# Altium schematic symbol library Voltage Regulator.SchLib: 52 symbols (part 2 of 2)
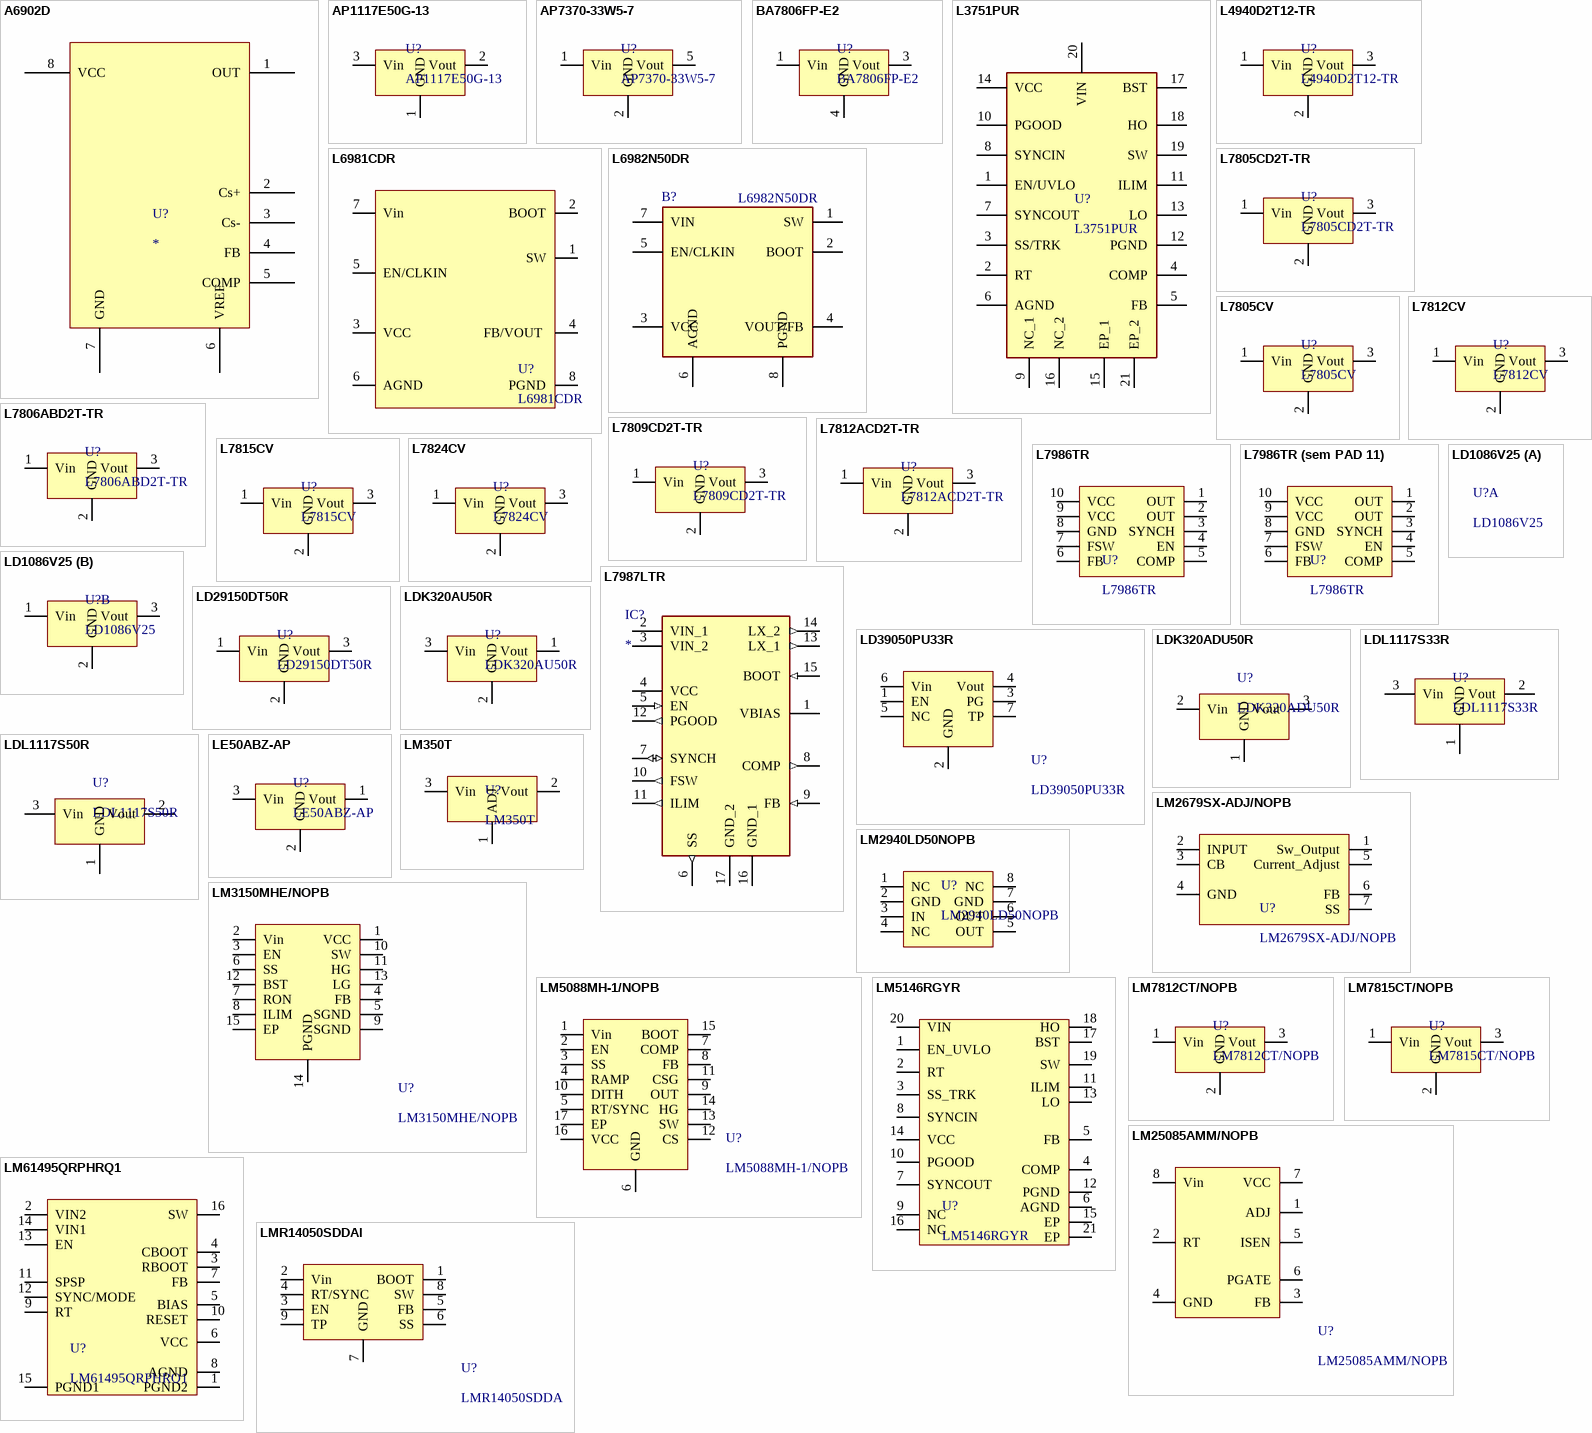
[diagram p2: symbols A6902D to LMR14050SDDAl]

## LM61495QRPHRQ1
designator U?
IC SWITCHING REGULATOR 10A 36V TO 12V; Manufacturer: Texas Instruments; Max Power Dissipation: Internally Limited; Output Type: Switch; Voltage - Input (Max): 3 - 36V; Current - Quiescent (Iq): 10uA; Library Control - Checked Schematic: Yes; Library Control - Person that Checked Schematic: Tico liro; Voltage - Output (Max): 19.58V; Supplier 1: Mouser; Part Number: LM61495QRPHRQ1; Library Ref: Voltage Regulator; Category: Switch Voltage Regulator; Price: 1=6,43, 10=5,81, 100=4,60 (USD); Package/ Case: VQFN-HR-16; Operating Temperature: -40~150ºC; Voltage - Output (Min/Fixed): 12V; Supplier Part Number 1: 595-LM61495QRPHRQ1; Library Control - Person that did the Last Update Schematic: Tico Liro; Current - Output: 10A; Power Dissipation: Internally Limited; ComponentLink1Description: Mouser Link; ComponentLink1URL: https://br.mouser.com/ProductDetail/Texas-Instruments/LM61495QRPHRQ1?qs=%2Fha2pyFadujnBz20fuua%252B7dznIPjiiJKPXGl95EYLkkqJ%252BooFCTelw%3D%3D; ComponentLink2Description: Datasheet; ComponentLink2URL: https://www.ti.com/lit/ds/symlink/lm61495-q1.pdf?ts=1632746094469&ref_url=https%253A%252F%252Fbr.mouser.com%252F
footprint VQFN-HR-16
pins: 1 PGND2, 2 VIN2, 3 RBOOT, 4 CBOOT, 5 BIAS, 6 VCC, 7 FB, 8 AGND, 9 RT, 10 RESET, 11 SPSP, 12 SYNC/MODE, 13 EN, 14 VIN1, 15 PGND1, 16 SW

## LMR14050SDDAl
designator U?, comment LMR14050SDDA
IC REG SWITCHING 5A 0.8V TO 28V; Manufacturer: Texas Instruments; Output Type: Regulated; Number of Regulators: 1; Voltage - Input (Max): 40V; Library Control - Checked Footprint: Yes; Library Control - Person that Checked Footprint: Nícolas; Library Control - Person that did the Last Update Footprint: Raquel; Voltage - Input (Min): 4V; Frequency - Switching: 2.2MHz; Current - Operating Supply: 40uA; Supplier 1: MOUSER; Part Number: LMR14050SDDA; Library Ref: Voltage Regulator; Category: Switching Voltage Regulator; Price: 1=3,56, 10=3,20, 100=2,61 (USD); Package/ Case: SO-PowerPad-8; Operating Temperature: -40~125ºC; Max Power Dissipation: -; Voltage - Output (Min/Fixed): 0.8V; Supplier Part Number 1: 595-LMR14050SDDA; Voltage - Dropout (Max): -; Library Control - Checked Schematic: Yes; Library Control - Last Update: 13/06/21; Library Control - Person that Checked Schematic: Nícolas; Library Control - Person that did the Last Update Schematic: Raquel; Voltage - Output (Max): 28V; Current - Output: 5A; ComponentLink1Description: Datasheet; ComponentLink1URL: https://www.ti.com/lit/ds/symlink/lmr14050.pdf?HQS=dis-mous-null-mousermode-dsf-pf-null-wwe&ts=1622835396169&ref_url=https%253A%252F%252Fwww.google.com%252F; ComponentLink2Description: Mouser Link; ComponentLink2URL: https://br.mouser.com/ProductDetail/Texas-Instruments/LMR14050SDDA?qs=G5PZsBocSXvS%252BW5YoCtcqQ%3D%3D
footprint SO-PowerPad-8 (SOIC, 8-Leads, Body 4,90x3,90mm, Pitch 1,27mm, Thermal Pad 3,10x2,40mm, IPC Medium Density)
pins: 1 BOOT, 2 Vin, 3 EN, 4 RT/SYNC, 5 FB, 6 SS, 7 GND, 8 SW, 9 TP

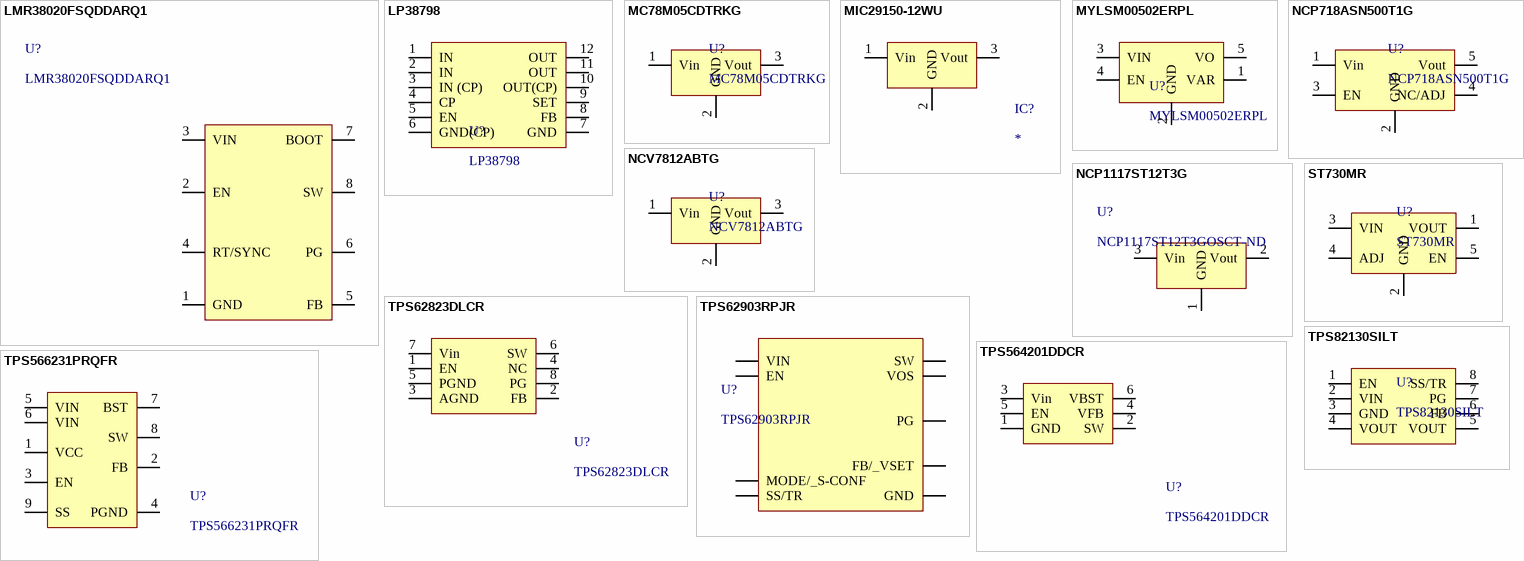
[diagram p1: symbols LMR38020FSQDDARQ1 to TPS566231PRQFR]

## LMR38020FSQDDARQ1
designator U?
IC REG SWITCHING 2A 4.2v TO 80V; Manufacturer: Texas Instruments; Description: Automotive SIMPLE SWITCHER® power converter 4.2-V to 80-V, 2-A, synchronous buck converter 8-SO PowerPAD -40 to 150; Supplier: Mouser; Supplier Part Number: 595-MR38020FSQDDARQ1; Part Number: LMR38020FSQDDARQ1; RoHS: No; Category: Voltage Regulators - Switching; Stock: 3256; Pricing: 1=3,6, 10=2,46, 50=2,46, 100=2,18, 1000=1,9, 10000=1,87 (USD); Manufacturer Part Number: LMR38020FSQDDARQ1
footprint SO-8 (Regulator)
pins: 1 GND, 2 EN, 3 VIN, 4 RT/SYNC, 5 FB, 6 PG, 7 BOOT, 8 SW

## LP38798
designator U?
IC SWITCHING REGULATOR 800mA 3V TO 20V; Manufacturer: Texas Instruments; Max Power Dissipation: Internally Limited; Output Type: Switch; Voltage - Output (Min/Fixed): 1.2V; Current - Quiescent (Iq): 2.2mA; Voltage - Dropout (Max): 420mV; Library Control - Checked Schematic: Yes; Library Control - Person that Checked Schematic: Nícolas; Voltage - Output (Max): 19.58V; Supplier 1: Mouser; Part Number: LP38798; Library Ref: Voltage Regulator; Category: Switch Voltage Regulator; Price: 1=3,70, 10=3,32, 100=3,14 (USD); Package/ Case: WSON-12; Operating Temperature: -65~150ºC; Voltage - Input (Max): 20V; Supplier Part Number 1: 595-LP38798SDEADJNPB; Library Control - Person that did the Last Update Schematic: Nícolas; Current - Output: 800mA; Power Dissipation: Internally Limited; ComponentLink1Description: Mouser Link; ComponentLink1URL: https://br.mouser.com/ProductDetail/Texas-Instruments/LP38798SDE-ADJ-NOPB?qs=n38Wlrh4b4aayTiTCgMhSA%3D%3D; ComponentLink2Description: Datasheet; ComponentLink2URL: https://www.ti.com/lit/ds/symlink/lp38798.pdf?HQS=dis-mous-null-mousermode-dsf-pf-null-wwe&ts=1622835313490&ref_url=https%253A%252F%252Fwww.google.com%252F
footprint WSON-12 (SON, 12-Leads, Body 4,00x4,00mm, Pitch 0,50mm, Thermal Pad 3,01x2,29mm, IPC Medium Density)
pins: 1 IN, 2 IN, 3 IN (CP), 4 CP, 5 EN, 6 GND(CP), 7 GND, 8 FB, 9 SET, 10 OUT(CP), 11 OUT, 12 OUT

## MC78M05CDTRKG
designator U?
IC REG LINEAR 5V 500mA TO-252-3; Manufacturer: ON Semiconductor; Max Power Dissipation: Internally Limited; Output Type: Fixed; Number of Regulators: 1; Voltage - Input (Max): 35V; Current - Quiescent (Iq): 0.8mA; Voltage - Dropout (Max): 2.0V; Library Control - Checked Schematic: Yes; Library Control - Person that Checked Schematic: Nícolas; Library Control - Person that did the Last Update Footprint: Raquel; Voltage - Output (Max): 5.2V; Supplier 1: MOUSER; Part Number: MC78M05CDTRKG; Library Ref: Voltage Regulator; Category: Linear Voltage Regulator; Price: 1=0,48,10=0,406, 100=0,281 (USD); Package/ Case: TO-252-3; Operating Temperature: 0~125ºC; Voltage - Output (Min/Fixed): 5V; Supplier Part Number 1: 863-MC78M05CDTRKG; Library Control - Last Update: 25/06/21; Library Control - Person that did the Last Update Schematic: Raquel; Current - Output: 500mA; ComponentLink1Description: Datasheet; ComponentLink1URL: https://br.mouser.com/datasheet/2/308/1/MC78M00_D-2316032.pdf; ComponentLink2Description: Mouser Link; ComponentLink2URL: https://br.mouser.com/ProductDetail/ON-Semiconductor/MC78M05CDTRKG?qs=%2Fha2pyFaduirlRo6%252B6i1uI%2F8zrb8sRMZfecK7BDoyj3iVBrTtFeRIg%3D%3D
footprint TO-252-3-Reg (D-PAK, 3-Pads, Body 6,21x6,73mm (max), IPC Medium Density)
pins: 1 Vin (power), 2 GND (power), 3 Vout (power)

## MIC29150-12WU
designator IC?
Integrated Circuit; Manufacturer_Name: Microchip; Manufacturer_Part_Number: MIC29150-12WU; Datasheet Link: http://www.microchip.com/mymicrochip/filehandler.aspx?ddocname=en580805; Height: 4.902mm; Arrow Part Number: MIC29150-12WU; Arrow Price/Stock: https://www.arrow.com/en/products/mic29150-12wu/microchip-technology?region=nac
footprint MIC2915012WU
pins: 1 Vin (power), 2 GND (power), 3 Vout (power)

## MYLSM00502ERPL
designator U?
Non-Isolated DC/DC Converters 1-5.25V 13W DC/DC; Manufacturer: Murata Electronics; Voltage - Input (Max): 17 V; Library Control - Checked Footprint: Yes; Library Control - Person that Checked Footprint: Lazanha; Supplier 1: Mouser; Part Number: MYLSM00502ERPL; Library Ref: DC/DC Converters; Category: Non-Isolated DC/DC Converters; Price: 1=3.96, 10=3.85, 100=3.51; Package/ Case: -; Operating Temperature: -40 to +85; Max Power Dissipation: -; Output Type: -; Number of Regulators: -; Voltage - Output (Min/Fixed): -; Current - Quiescent (Iq): -; Supplier Part Number 1: 580-MYLSM00502ERPL; Voltage - Dropout (Max): -; Library Control - Checked Schematic: Yes; Library Control - Last Update: 17/08/2022; Library Control - Person that Checked Schematic: Lazanha; Current - Output: -; Power Dissipation: -; Voltage - Output (Max): -; ComponentLink1Description: Mouser; ComponentLink1URL: https://br.mouser.com/ProductDetail/Murata-Electronics/MYLSM00502ERPL?qs=j%252B1pi9TdxUa0tKLzjWlabw%3D%3D; ComponentLink2Description: Datasheet; ComponentLink2URL: https://br.mouser.com/datasheet/2/281/MYLSM00502ERPL-1219185.pdf
footprint MYLSM00502ERPL
pins: 1 VAR, 2 GND, 3 VIN, 4 EN, 5 VO

## NCP718ASN500T1G
designator U?
IC REG LINEAR 5V 300mA TSOT-23-5; Manufacturer: ON Semiconductor; Max Power Dissipation: Internally limited; Output Type: Fixed; Number of Regulators: 1; Voltage - Input (Max): 24V; Current - Quiescent (Iq): 4 uA; Voltage - Dropout (Max): 380 mV (300 mA); Library Control - Checked Footprint: Yes; Library Control - Person that Checked Footprint: Nícolas; Voltage - Output (Max): 5.3V; Supplier 1: MOUSER; Part Number: NCP718ASN500T1G; Library Ref: Voltage Regulator; Category: Linear Voltage Regulator; Price: 1= 0.53000, 10= 0.45600, 100= 0.31600 (USD); Package/ Case: TSOT-23-5; Operating Temperature: -40°C~125°C; Voltage - Output (Min/Fixed): 5V; Supplier Part Number 1: 863-NCP718ASN500T1G; Library Control - Checked Schematic: Yes; Library Control - Last Update: 23/06 10:35; Library Control - Person that Checked Schematic: Nícolas; Library Control - Person that did the Last Update Schematic: Nícolas; Current - Output: 300 mA; Power Dissipation: Internally limited; ComponentLink1Description: Datasheet; ComponentLink1URL: https://br.mouser.com/datasheet/2/308/1/NCP718_D-2317435.pdf; ComponentLink2Description: Mouser Link; ComponentLink2URL: https://br.mouser.com/ProductDetail/ON-Semiconductor/NCP718ASN500T1G?qs=%2Fha2pyFadujVPk3%252BPJxrrjZu0iWv1aU0l12V8nReSjBrkWpAUSUQYw4Kc5lpI2ag
footprint TSOT-23-5
pins: 1 Vin, 2 GND, 3 EN, 4 NC/ADJ, 5 Vout

## NCP1117ST12T3G
designator U?, comment NCP1117ST12T3GOSCT-ND
IC REG LINEAR 12V 1.0A 13.5V TO 20V SOT-223-3; Manufacturer: ON Semiconductor; Package Body Material: Plastic; Adjustability: FIXED; Dropout Voltage1-Max: 1.2V; Dropout Voltage1-Nom: 1.07V; Channels: 1; Output Current1-Max: 1A; Output Voltage1-Max: 12.24V; Output Voltage1-Min: 11.76V; Regulator Type: FIXED POSITIVE SINGLE OUTPUT LDO REGULATOR; Time @ Peak Reflow Temperature-Max (s): 40s; Voltage Tolerance-Max: 2%; Qualification Status: Not Qualified; Supplier: Digikey; Part Number: NCP1117ST12T3GOSCT-ND; Manufacturer Part Number: NCP1117ST12T3G; RoHS: Yes; Category: Voltage Regulators - Linear; Stock: 11439; Pricing: 1=1,17, 10=0,71, 25=0,5908, 100=0,4554, 250=0,38888, 500=0,34792, 1000=0,31362 (USD); Case/Package: SOP; Pins: 4; Package Shape: Rectangular; Terminal Finish: Tin; JESD-609 Code: e3; Input Voltage Absolute-Max: 20V; Max Supply Voltage: 20V; Min Input Voltage: 13.5V; JESD-30 Code: R-PDSO-G4; Moisture Sensitivity Level: 1; Number of Outputs: 1; Operating Temperature, TJ-Max: 150°C; Operating Temperature, TJ-Min: -55°C; Output Voltage1-Nom: 12V; Packaging: Tape and Reel; Peak Reflow Temperature (Cel): 260°C; Surface Mount: Yes; Technology: BIPOLAR; Terminal Form: Gull Wing; Terminal Position: DUAL; Length: 6.5mm; Width: 3.5mm; Height - Seated (Max): 1.8mm; Terminal Pitch: 2.3mm; Reach SVHC Compliant: Yes; RoHS Compliant: Yes; ComponentLink1URL: https://datasheet.ciiva.com:443/pdfs/VipMasterIC/IC/ONSM/ONSM-S-A0005505875/ONSM-S-A0005505875-1.pdf?src-supplier=IHS+Markit; ComponentLink1Description: https://datasheet.ciiva.com:443/pdfs/VipMasterIC/IC/ONSM/ONSM-S-A0005505875/ONSM-S-A0005505875-1.pdf?src-supplier=IHS+Markit; ComponentLink2URL: https://datasheet.ciiva.com/8231/ncp1117-d-8231046.pdf?src-supplier=Avnet; ComponentLink2Description: https://datasheet.ciiva.com/8231/ncp1117-d-8231046.pdf?src-supplier=Avnet; ComponentLink3URL: https://datasheet.ciiva.com/2059/ncp1117-d-2059852.pdf?src-supplier=Digikey; ComponentLink3Description: https://datasheet.ciiva.com/2059/ncp1117-d-2059852.pdf?src-supplier=Digikey; ComponentLink4URL: https://datasheet.ciiva.com/2059/ncp1117-d-2059853.pdf?src-supplier=Digikey; ComponentLink4Description: https://datasheet.ciiva.com/2059/ncp1117-d-2059853.pdf?src-supplier=Digikey
footprint SOT-223-4
pins: 1 GND (power), 2 Vout (power), 3 Vin (power)

## NCV7812ABTG
designator U?
IC REG LINEAR 12V 1.0A  TO-220-3; Manufacturer: ON Semiconductor; Max Power Dissipation: 16W; Output Type: Fixed; Number of Regulators: 1; Voltage - Input (Max): 24V; Current - Quiescent (Iq): 3.4mA; Voltage - Dropout (Max): 2V; Library Control - Checked Footprint: Yes; Library Control - Last Project that Used: None; Library Control - Person that Checked Footprint: Pierre; Library Control - Person that did the Last Update Footprint: Ticken; Library Control - Person that did the Last Update Schematic: Nícolas; Supplier 1: Mouser; Part Number: NCV7812ABTG; Library Ref: Linear Voltage Regulator; Category: Linear Regulators; Price: 1= 0.87, 10= 0.787, 100= 0.612 (USD); Package/ Case: TO-220-3; Operating Temperature: -40°C~125°C; Voltage - Output (Min/Fixed): 12V; Supplier Part Number 1: 863-NCV7812ABTG; Library Control - Checked Schematic: Yes; Library Control - Last Update: 23/06/2021; Library Control - Person that Checked Schematic: Pierre; ComponentLink1Description: Datasheet; ComponentLink1URL: https://www.mouser.com/datasheet/2/308/1/MC7800_D-2315963.pdf; ComponentLink2Description: Mouser Link; ComponentLink2URL: https://br.mouser.com/ProductDetail/ON-Semiconductor/NCV7812ABTG?qs=%2Fha2pyFaduhG%2FQgJTtYkBC3hRpGGR8w1tAr5UT%2FSJwIULagPpVfWbw%3D%3D
footprint TO-220-3.
pins: 1 Vin (power), 2 GND (power), 3 Vout (power)

## ST730MR
designator U?
IC REG LINEAR ADJUSTABLE 300mA SOT23-5L; Manufacturer: STMicroelectronics; Max Power Dissipation: Internally limited; Number of Regulators: 1; Voltage - Input (Max): 28V; Current - Quiescent (Iq): 240 uA (Io = 300 uA); Voltage - Dropout (Max): 1.2V; Library Control - Checked Footprint: Yes; Library Control - Person that Checked Footprint: Nícolas; Supplier 1: MOUSER; Part Number: ST730MR; Library Ref: Voltage Regulator; Category: Linear Voltage Regulator; Price: 1= 0.92000, 10= 0.76000, 100= 0.49000 (USD); Package/ Case: SOT23-5L; Operating Temperature: -40°C~125°C; Output Type: Adjustable; Voltage - Output (Min/Fixed): -; Supplier Part Number 1: 511-ST730MR; Library Control - Checked Schematic: Yes; Library Control - Last Update: 24/06/21 19:25; Library Control - Person that Checked Schematic: Nícolas; Library Control - Person that did the Last Update Schematic: Nícolas; Current - Output: 300 mA; Power Dissipation: Internally limited; Voltage - Output (Max): -; ComponentLink1Description: Mouser Link; ComponentLink1URL: https://br.mouser.com/ProductDetail/STMicroelectronics/ST730MR?qs=%2Fha2pyFadugOYpqU687J%252BCNw0yNXHvZSq7ugr46VOyaoWRPk2YBZ6w%3D%3D; ComponentLink2Description: Datasheet; ComponentLink2URL: https://br.mouser.com/datasheet/2/389/dm00625749-1799579.pdf
footprint SOT23-5L
pins: 1 VOUT, 2 GND, 3 VIN, 4 ADJ, 5 EN

## TPS62823DLCR
designator U?
IC REG SWITCHING 3A 0.6V TO 4V; Manufacturer: Texas Instruments; Output Type: Regulated; Number of Regulators: 1; Voltage - Input (Max): 5.5V; Library Control - Checked Footprint: Yes; Library Control - Person that Checked Footprint: Nícolas; Library Control - Person that did the Last Update Footprint: Raquel; Voltage - Input (Min): 2.4V; Frequency - Switching: 2.2MHz; Supplier 1: MOUSER; Part Number: TPS62823DLCR; Library Ref: Voltage Regulator; Category: Switching Regulator; Price: 1=1,67, 10=1,51, 100=1,21 (USD); Package/ Case: VSON-HR-8; Operating Temperature: -40/+125ºC; Max Power Dissipation: -; Voltage - Output (Min/Fixed): 0.6V; Supplier Part Number 1: 595-TPS62823DLCR; Voltage - Dropout (Max): -; Library Control - Checked Schematic: Yes; Library Control - Last Update: 13/06/21; Library Control - Person that Checked Schematic: Nícolas; Library Control - Person that did the Last Update Schematic: Raquel; Voltage - Output (Max): 4V; Current - Output: 3A; Current - Operating Supply: *; ComponentLink1Description: Datasheet; ComponentLink1URL: https://www.ti.com/lit/ds/symlink/tps62823.pdf?HQS=dis-mous-null-mousermode-dsf-pf-null-wwe&DCM=yes&ref_url=https%3A%2F%2Fwww.google.com%2F&distId=26; ComponentLink2Description: Mouser Link; ComponentLink2URL: https://br.mouser.com/ProductDetail/Texas-Instruments/TPS62823DLCR?qs=%2Fha2pyFadugGfwlG6tIeOALgGXIjvEauykkOU4bGZm%252BYrUk76ABgIg%3D%3D
footprint VSON-HR-8 (SON, 8-Leads, Body 2,00x1,50mm, Pitch 0,50mm, IPC Medium Density)
pins: 1 EN, 2 FB, 3 AGND, 4 NC, 5 PGND, 6 SW, 7 Vin, 8 PG

## TPS62903RPJR
designator U?
IC REG SWITCHING 3A 0.4V to 5.5V; Manufacturer: Texas Instruments; Output Type: Regulated; Number of Regulators: 1; Voltage- Input (Max): 17V; Library Control - Checked Footprint: Yes; Library Control - Last Project that Used: Raijin MK1; Library Control - Person that Checked Footprint: Nikaum; Library Control - Person that did the Last Update Schematic: Marcos; Voltage - Input (Min): 3V; Frequency - Switching: 1MHz to 2.5MHz; Supplier 1: Mouser; Part Number: TPS62903RPJR; Library Ref: Voltage Regulator; Category: Switching Regulator; Price: 1=2.03 , 10=1,83 , 100=1,47 , 500=1,21 , 1000=1,01 (USD); Package/Case: VQFN-HR-9; Operating Temperature: -40~150 C; Max power Dissipation: -; Voltage- Output (Min/Fixed): 0.4V; Supplier Part Number 1: 595-TPS62903RPJR; Voltage - Dropout (Max): -; Library Control - Checked Schematic: Yes; Library Control - Last Update: 19/07/2021 09:28; Library Control - Person that Checked Schematic: Nikaum; Library Control - Person that did the Last Update Footprint: Nikaum; Voltage Output (Max): 5.5V; Current - Output: 3A; Current - Operating Supply: -; ComponentLink1Description: Mouser Link; ComponentLink1URL: https://www.mouser.com/ProductDetail/Texas-Instruments/TPS62903RPJR?qs=%2Fha2pyFadujoz9dD2iWmxEIG8wILTQB4UFbtSuHjz9jGVhTZ6FLd7w%3D%3D; ComponentLink2Description: Datasheet Link; ComponentLink2URL: https://www.ti.com/lit/ds/symlink/tps62903.pdf?ts=1626116449588&ref_url=https%253A%252F%252Fwww.ti.com%252Fproduct%252FTPS62903
footprint VQFN-HR-9
pins: EN, FB FB/_VSET, GND, MODE MODE/_S-CONF, PG, SS SS/TR, SW, VIN, VOS

## TPS82130SILT
designator U?
IC SWITCH REG 5V 3A  SIL-8; Manufacturer: Texas Instruments; Max Power Dissipation: Internally Limited; Number of Regulators: 1; Voltage - Input (Max): 17V; Current - Quiescent (Iq): 20mA; Voltage - Dropout (Max): ~400mV; Library Control - Checked Footprint: Yes; Library Control - Last Project that Used: None; Library Control - Person that Checked Footprint: Nícolas; Library Control - Person that did the Last Update Footprint: Ticken; Supplier 1: Mouser; Part Number: TPS82130SILT; Library Ref: Switch Voltage Regulator; Category: Switch Regulators; Price: 1 = 5.39/ 10 = 4.85/ 100 = 4.58 (USD); Package/ Case: SIL-8; Operating Temperature: -40°C~125°C; Output Type: Switch; Voltage - Output (Min/Fixed): 5V; Supplier Part Number 1: 595-TPS82130SILT; Library Control - Checked Schematic: Yes; Library Control - Last Update: 24/06/2021; Library Control - Person that Checked Schematic: Nícolas; Library Control - Person that did the Last Update Schematic: Nícolas; ComponentLink1Description: Datasheet Link; ComponentLink1URL: https://www.ti.com/general/docs/suppproductinfo.tsp?distId=26&gotoUrl=http%253A%252F%252Fwww.ti.com%252Flit%252Fgpn%252Ftps82130; ComponentLink2Description: Mouser Link; ComponentLink2URL: https://br.mouser.com/ProductDetail/Texas-Instruments/TPS82130SILT?qs=%2Fha2pyFaduhjn6HfDXcaUQjrlwEwAXbBoP2rd4f5vLL93RbP6XVETA%3D%3D
footprint SIL-8
pins: 1 EN, 2 VIN, 3 GND, 4 VOUT, 5 VOUT, 6 FB, 7 PG, 8 SS/TR

## TPS564201DDCR
designator U?
IC REG SWITCHING 4A 0.76V TO 7V; Manufacturer: Texas Instruments; Output Type: Regulated; Number of Regulators: 1; Voltage - Input (Max): 17V; Library Control - Checked Footprint: Yes; Library Control - Person that Checked Footprint: Nícolas; Library Control - Person that did the Last Update Footprint: Raquel; Voltage - Input (Min): 4.5V; Frequency - Switching: 560kHz; Current - Operating Supply: 400uA; Supplier 1: MOUSER; Part Number: TPS564201DDCR; Library Ref: Voltage Regulator; Category: Switching Voltage Regulator; Price: 1=1,22, 10=1,11, 100=0,859 (USD); Package/ Case: SOT-23-Thin-6; Operating Temperature: -40~+125ºC; Max Power Dissipation: -; Voltage - Output (Min/Fixed): 0.76V; Supplier Part Number 1: 595-TPS564201DDCR; Voltage - Dropout (Max): -; Library Control - Checked Schematic: Yes; Library Control - Last Update: 13/06/21; Library Control - Person that Checked Schematic: Nícolas; Library Control - Person that did the Last Update Schematic: Raquel; Voltage - Output (Max): 7V; Current - Output: 4A; ComponentLink1Description: Datasheet; ComponentLink1URL: https://www.ti.com/lit/ds/symlink/tps564201.pdf?HQS=dis-mous-null-mousermode-dsf-pf-null-wwe&ts=1622835474175&ref_url=https%253A%252F%252Fwww.google.com%252F; ComponentLink2Description: Mouser Link; ComponentLink2URL: https://br.mouser.com/ProductDetail/Texas-Instruments/TPS564201DDCR?qs=%2Fha2pyFaduji6kpZkT4EYijYDwJ1xKUe3V3vTuU6PlftkNR06F3Dhn%2F7oqprzta6
footprint SOT-23-Thin-6 (SOT23, 6-Leads, Body 2,90x2,80mm, Pitch 0,95mm, IPC Medium Density)
pins: 1 GND, 2 SW, 3 Vin, 4 VFB, 5 EN, 6 VBST

## TPS566231PRQFR
designator U?
IC REG SWITCHING 4A 0,6V TO 7V; Manufacturer: Texas Instruments; Output Type: Regulated; Number of Regulators: 1; Voltage - Input (Max): 18V; Voltage - Output (Min/Fixed): 600mV; Library Control - Checked Footprint: Yes; Library Control - Person that Checked Footprint: Guilherme; Library Control - Person that did the Last Update Footprint: Marques; Voltage - Input (Min): 4.5V; Current - Output: 6A; Frequency - Switching: 600kHz; Current - Operating Supply: 75uA; Supplier 1: MOUSER; Part Number: TPS566231PRQFR; Library Ref: Voltage Regulator; Category: Switching Voltage Regulator; Price: 1=2,92, 10=2,63, 100=2,15 (USD); Package/ Case: VQFN-HR; Operating Temperature: -40°C ~ 125ºC; Max Power Dissipation: -; Supplier Part Number 1: 595-TPS566231PRQFR; Voltage - Dropout (Max): -; Library Control - Checked Schematic: Yes; Library Control - Last Update: 24/07/21; Library Control - Person that Checked Schematic: Guilherme; Library Control - Person that did the Last Update Schematic: Marques; Voltage - Output (Max): 7V; ComponentLink1Description: Datasheet; ComponentLink1URL: https://www.ti.com/lit/ds/symlink/tps566231.pdf?ts=1627121525087; ComponentLink2Description: Mouser Link; ComponentLink2URL: https://br.mouser.com/ProductDetail/Texas-Instruments/TPS566231PRQFR?qs=%2Fha2pyFaduin4%252BaGmPtS5cEip%2FV5xNoRI9ELwGck3HsUjgtKYNm%2FDQ%3D%3D
footprint RQF0009A
pins: 1 VCC, 2 FB, 3 EN, 4 PGND, 5 VIN, 6 VIN, 7 BST, 8 SW, 9 SS